# EAGLE library part 162D (library Displaytech (chr))
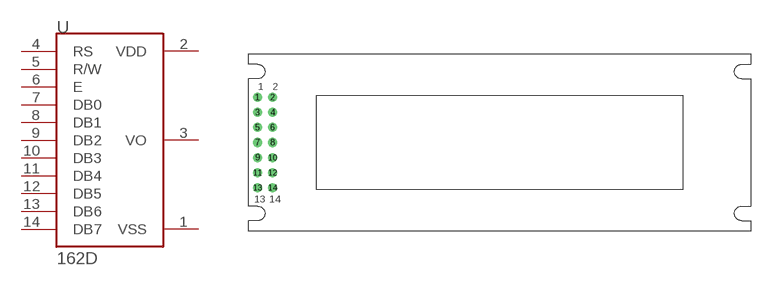
[diagram p4: symbol with the pads of 162D; footprint 162D]

Designator prefix -

## 162D  [162D]
1  VSS  pwr
2  VDD  pwr
3  VO  in
4  RS
5  R/W
6  E
7  DB0
8  DB1
9  DB2
10  DB3
11  DB4
12  DB5
13  DB6
14  DB7

## Footprint 162D (pad centres in mm)
drill 1.016 round: 1 0,0; 2 2.54,0; 3 0,-2.54; 4 2.54,-2.54; 5 0,-5.08; 6 2.54,-5.08; 7 0,-7.62; 8 2.54,-7.62; 9 0,-10.16; 10 2.54,-10.16; 11 0,-12.7; 12 2.54,-12.7; 13 0,-15.24; 14 2.54,-15.24